# EAGLE library part _CON_MOD_8P8C_H_(RJLSE4118101) (library SamacSys_Parts)
Modular Connectors / Ethernet Connectors 8P8C SMT Shielded 1 Port Source: Datasheet <http://www.amphenol-icc.com/media/wysiwyg/files/drawing/rjlse4x1xx01.pdf>
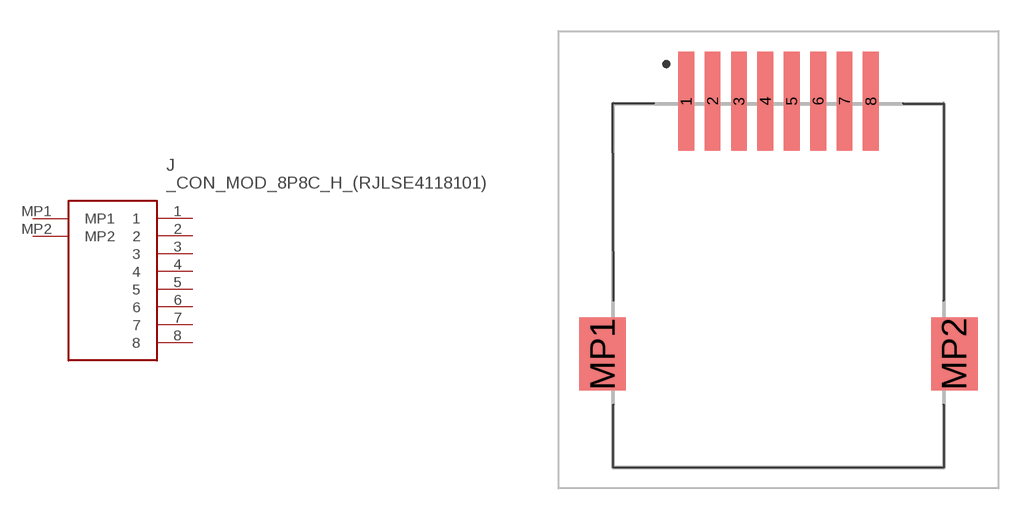
[diagram p3: symbol with the pads of RJLSE4118101; footprint RJLSE4118101]

Designator prefix J

## _CON_MOD_8P8C_H_(RJLSE4118101) (DESCRIPTION: Modular Connectors / Ethernet Connectors 8P8C SMT Shielded 1 Port; HEIGHT: 12.32mm; MANUFACTURER_NAME: Amphenol; MANUFACTURER_PART_NUMBER: RJLSE4118101; MOUSER_PART_NUMBER: 523-RJLSE4118101; MOUSER_PRICE-STOCK: https://www.mouser.co.uk/ProductDetail/Amphenol-Commercial-Products/RJLSE4118101?qs=ghqBkJb31dm3b7Lq2U4GRg%3D%3D)  [RJLSE4118101]
1  1
2  2
3  3
4  4
5  5
6  6
7  7
8  8
MP1  MP1
MP2  MP2

## Footprint RJLSE4118101 (pad centres in mm)
RJLSE4118101-1
smd 0.76 x 4.75: 1 -4.445,7.637; 2 -3.175,7.637; 3 -1.905,7.637; 4 -0.635,7.637; 5 0.635,7.637; 6 1.905,7.637; 7 3.175,7.637; 8 4.445,7.637
smd 2.24 x 3.51: MP1 -8.46,-4.543; MP2 8.46,-4.543